# Altium footprint library standard_res_cap_ind.PcbLib: 17 footprints (part 1 of 2)
Each footprint in its own frame and in the unit in brackets; x right, y up, seen from the top. Pads: shape width x height; smd on the part's side, far side on the other; paste and mask are expansions set on the pad; w line width, h text height; cw(c..) or ccw(c..) is an arc to the next point about the centre after c.
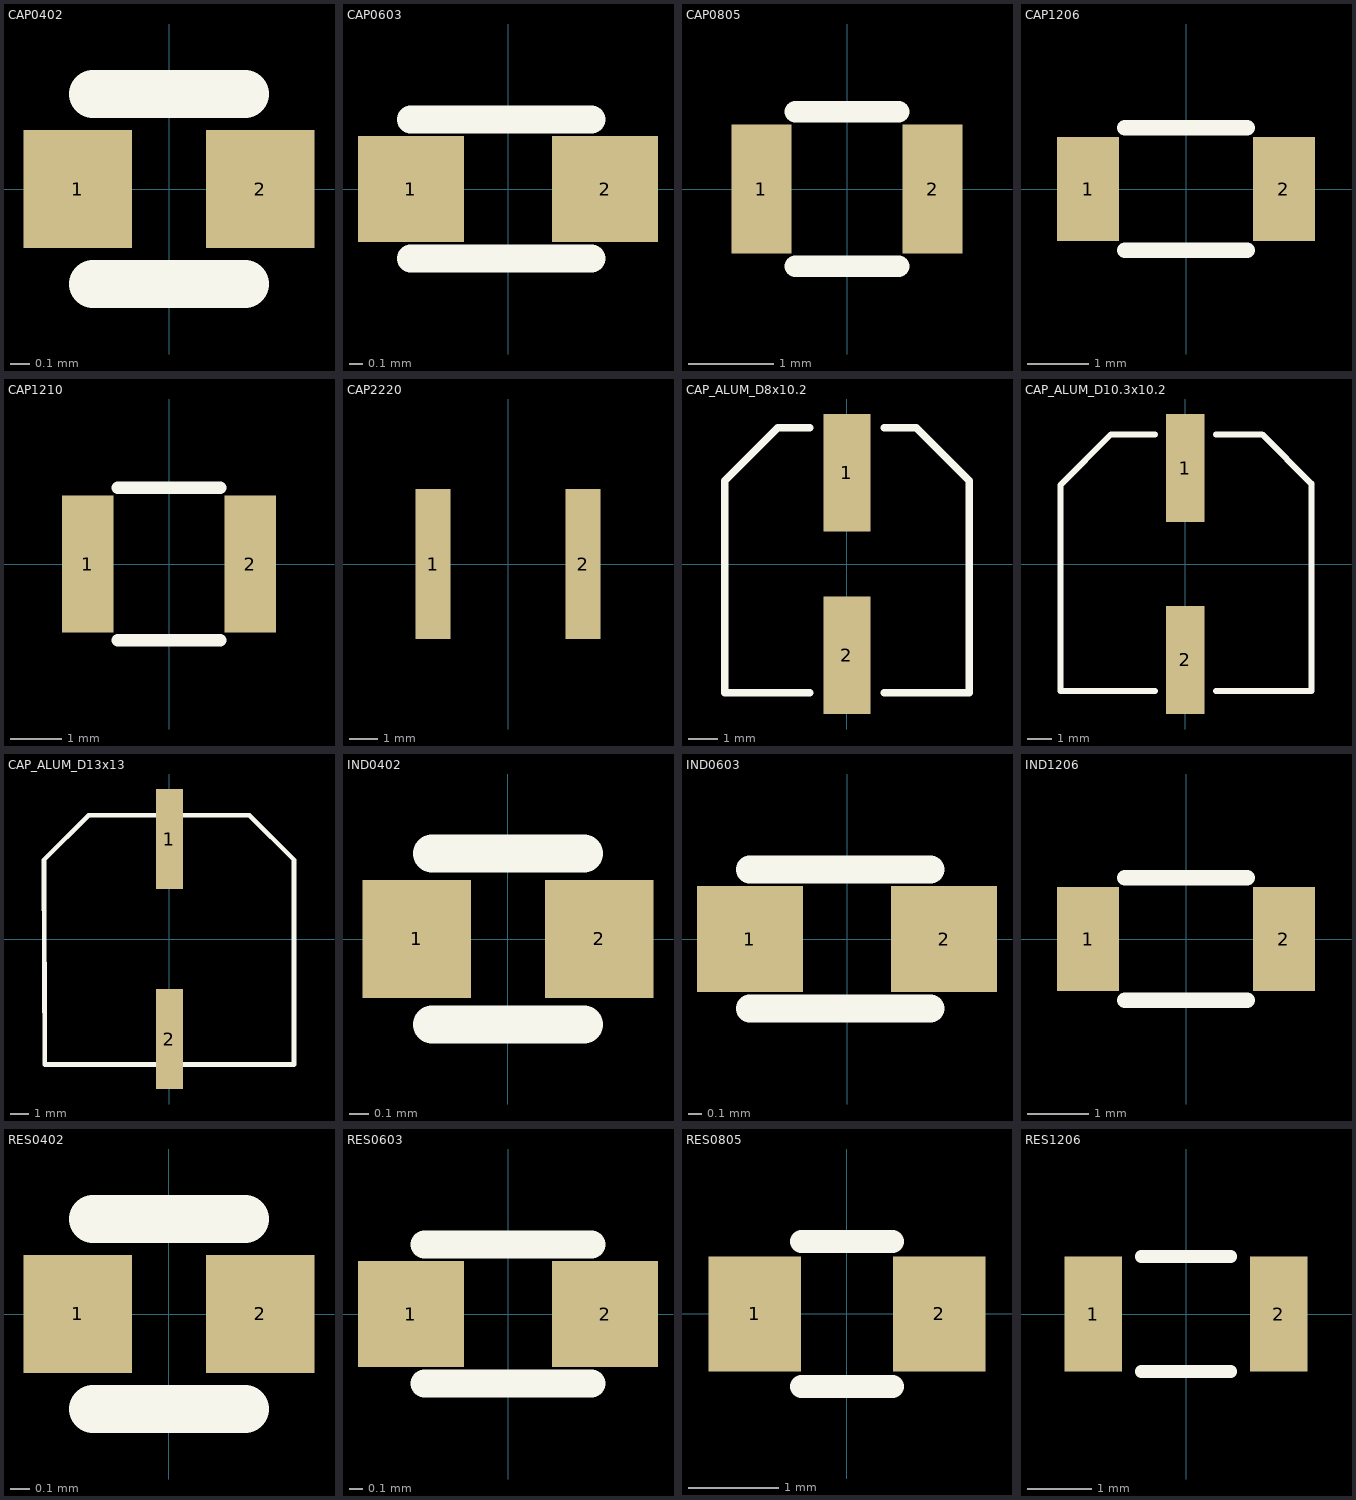
[diagram p0: the footprints below, top view; thin cyan lines are the x and y axes]

## CAP0402 [mm]
pads (2):
  rect 0.57x0.62 smd: 1(-0.48,0) 2(0.48,0)
Top Overlay:
  lines w0.254: -0.4,-0.5 0.4,-0.5 ; -0.4,0.5 0.4,0.5
3D body "CAPC-0402-T0.55-BN.stp": height 0.55, standoff 0, extent -0.525,-0.275 0.525,0.275

## CAP0603 [mil]
pads (2):
  rect 30x30 smd: 1(-27.5,0) 2(27.5,0)
Top Overlay:
  lines w7.87: -27.56,-19.68 23.62,-19.68 ; -27.56,19.68 23.62,19.68
3D body "CAPC-0603-T0.9-BN.stp": height 35.43, standoff 0, extent -33.4,-17.71 33.53,17.72

## CAP0805 [mm]
pads (2):
  rect 0.7x1.5 smd: 1(-1,0) 2(1,0)
Top Overlay:
  lines w0.254: -0.6,-0.9 0.6,-0.9 ; -0.6,0.9 0.6,0.9
3D body "C0805_135.step": height 1.22, standoff -0.03, extent -1,-0.675 1,0.675

## CAP1206 [mm]
pads (2):
  rect 1.016x1.7 smd: 1(-1.6,0) 2(1.6,0)
Top Overlay:
  lines w0.254: -1,-1 1,-1 ; -1,1 1,1
3D body "CAPC-1206-T1.0-BN.stp": height 1, standoff 0, extent -1.675,-0.875 1.675,0.875

## CAP1210 [mm]
pads (2):
  rect 1.016x2.7 smd: 1(-1.6,0) 2(1.6,0)
Top Overlay:
  lines w0.254: -1,-1.5 1,-1.5 ; -1,1.5 1,1.5
3D body "CAP1210.STEP": height 1.5, standoff 0, extent -1.7,-1.3 1.7,1.3

## CAP2220 [mm]
pads (2):
  rect 1.2x5.2 smd: 1(-2.6,0) 2(2.6,0)
3D body "CAP2220.stp": height 2.24, standoff -0.04, extent -2.85,-2.5 2.85,2.5

## CAP_ALUM_D8x10.2 [mm]
pads (2):
  rect 1.6x4 smd: 1(0,3.1) 2(0,-3.1)
Top Overlay:
  lines w0.254: -1.27,-4.373 -4.15,-4.373 -4.15,2.835 -2.358,4.627 -1.27,4.627 ; 1.27,-4.373 4.15,-4.373 4.15,2.835 2.358,4.627 1.27,4.627
3D body "CAPSMD220-35.stp": height 10.9, standoff 0.2, extent -4.15,-4.5 4.15,4.5

## CAP_ALUM_D10.3x10.2 [mm]
pads (2):
  rect 1.6x4.5 smd: 1(0,4) 2(0,-4)
Top Overlay:
  lines w0.254: -1.27,-5.3 -5.2,-5.3 -5.2,3.3 -3.1,5.4 -1.27,5.4 ; 1.27,-5.3 5.25,-5.3 5.25,3.35 3.2,5.4 1.27,5.4
3D body "CAPAE-D10.0x10.2.stp": height 10.5, standoff 0, extent -5.25,-6 5.25,6

## CAP_ALUM_D13x13 [mm]
pads (2):
  rect 1.5x5.5 smd: 1(0,5.5) 2(0,-5.5)
Top Overlay:
  lines w0.254: -6.9,4.35 -6.85,-6.9 6.85,-6.9 6.85,4.35 4.4,6.8 -4.45,6.8 -6.9,4.35
3D body "User Library-CAP_AL_EL_SMT_13x14.STEP": height 14, standoff 0, extent -6.85,-7.5 6.85,7.5

## IND0402 [mm]
pads (2):
  rect 0.57x0.62 smd: 1(-0.48,0) 2(0.48,0)
Top Overlay:
  lines w0.2: -0.4,-0.45 0.4,-0.45 ; -0.4,0.45 0.4,0.45
3D body "ferrite_bead_0402.STEP": height 0.5, standoff 0, extent -0.5,-0.25 0.5,0.25

## IND0603 [mil]
pads (2):
  rect 30x30 smd: 1(-27.5,0) 2(27.5,0)
Top Overlay:
  lines w7.87: -27.56,-19.68 23.62,-19.68 ; -27.56,19.68 23.62,19.68
3D body "ferrite_bead_0603.STEP": height 31.5, standoff 0, extent -31.5,-15.75 31.5,15.75

## IND1206 [mm]
pads (2):
  rect 1.016x1.7 smd: 1(-1.6,0) 2(1.6,0)
Top Overlay:
  lines w0.254: -1,-1 1,-1 ; -1,1 1,1
3D body "CAPC-1206-T1.0-BN.stp": height 1, standoff 0, extent -1.675,-0.875 1.675,0.875

## RES0402 [mm]
pads (2):
  rect 0.57x0.62 smd: 1(-0.48,0) 2(0.48,0)
Top Overlay:
  lines w0.254: -0.4,-0.5 0.4,-0.5 ; -0.4,0.5 0.4,0.5
3D body "RESC-0402.stp": height 0.4, standoff 0, extent -0.525,-0.275 0.525,0.275

## RES0603 [mil]
pads (2):
  rect 30x30 smd: 1(-27.5,0) 2(27.5,0)
Top Overlay:
  lines w7.87: -23.62,-19.68 23.62,-19.68 ; -23.62,19.68 23.62,19.68
3D body "RES0603.stp": height 17.72, standoff 0, extent -31.49,-15.74 31.51,15.76

## RES0805 [mil]
pads (2):
  rect 40x50 smd: 1(-40,0) 2(40,0)
Top Overlay:
  lines w10: -19.68,-31.5 19.68,-31.5 ; -19.68,31.5 19.68,31.5
3D body "RESC-0805.stp": height 23.62, standoff 0, extent -42.94,-26.57 39.73,26.58

## RES1206 [mm]
pads (2):
  rect 0.9x1.8 smd: 1(-1.45,0) 2(1.45,0)
Top Overlay:
  lines w0.2: -0.7,-0.9 0.7,-0.9 ; -0.7,0.9 0.7,0.9
3D body "R1206.step": height 0.55, standoff 0, extent -1.55,-0.8 1.55,0.8